# Altium schematic symbol library AD597ARZ.Schlib: 1 symbol
Pins are listed as number, name and electrical type; pins without a type are passive.

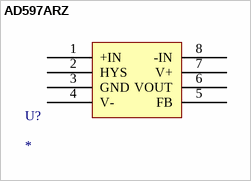
[diagram p0: symbol AD597ARZ]

## AD597ARZ
designator U?
pins: 1 +IN, 2 HYS, 3 GND, 4 V-, 5 FB, 6 VOUT, 7 V+, 8 -IN